# EAGLE library part GN1640 (library misc)
LED driver
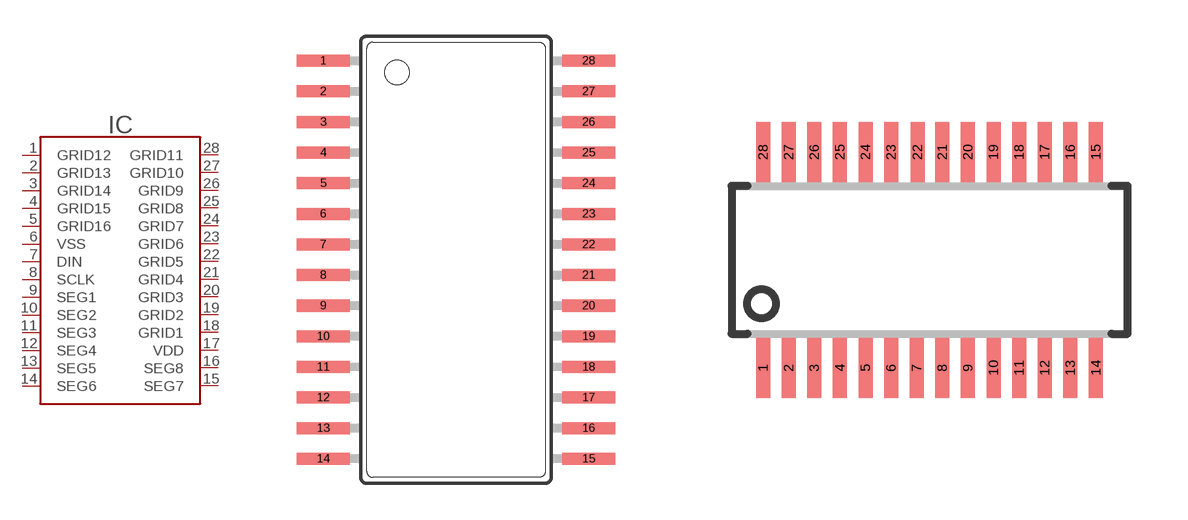
[diagram p5: symbol with the pads of SOP-28; footprints SOP-28, SSOP-28]

Designator prefix IC

## GN1640-SOP28 (LCSC#: C265478; MANF: GN Semic; MANF#: GN1640)  [SOP-28]
1  GRID12
2  GRID13
3  GRID14
4  GRID15
5  GRID16
6  VSS
7  DIN
8  SCLK
9  SEG1
10  SEG2
11  SEG3
12  SEG4
13  SEG5
14  SEG6
15  SEG7
16  SEG8
17  VDD
18  GRID1
19  GRID2
20  GRID3
21  GRID4
22  GRID5
23  GRID6
24  GRID7
25  GRID8
26  GRID9
27  GRID10
28  GRID11

## GN1640T-SSOP28 (LCSC#: C2758330; MANF: GN Semic; MANF#: GN1640T)  [SSOP-28]
Pads as for SOP-28

## Footprint SOP-28 (pad centres in mm)
Small Outline Package
smd 2.2 x 0.5: 1 -5.5,8.255; 2 -5.5,6.985; 3 -5.5,5.715; 4 -5.5,4.445; 5 -5.5,3.175; 6 -5.5,1.905; 7 -5.5,0.635; 8 -5.5,-0.635; 9 -5.5,-1.905; 10 -5.5,-3.175; 11 -5.5,-4.445; 12 -5.5,-5.715; 13 -5.5,-6.985; 14 -5.5,-8.255; 15 5.5,-8.255; 16 5.5,-6.985; 17 5.5,-5.715; 18 5.5,-4.445; 19 5.5,-3.175; 20 5.5,-1.905; 21 5.5,-0.635; 22 5.5,0.635; 23 5.5,1.905; 24 5.5,3.175; 25 5.5,4.445; 26 5.5,5.715; 27 5.5,6.985; 28 5.5,8.255

## Footprint SSOP-28 (pad centres in mm)
smd 0.35 x 1.5: 1 -4.16,-2.7; 2 -3.52,-2.7; 3 -2.88,-2.7; 4 -2.24,-2.7; 5 -1.6,-2.7; 6 -0.96,-2.7; 7 -0.32,-2.7; 8 0.32,-2.7; 9 0.96,-2.7; 10 1.6,-2.7; 11 2.24,-2.7; 12 2.88,-2.7; 13 3.52,-2.7; 14 4.16,-2.7; 15 4.16,2.7; 16 3.52,2.7; 17 2.88,2.7; 18 2.24,2.7; 19 1.6,2.7; 20 0.96,2.7; 21 0.32,2.7; 22 -0.3,2.7; 23 -0.96,2.7; 24 -1.6,2.7; 25 -2.24,2.7; 26 -2.88,2.7; 27 -3.52,2.7; 28 -4.16,2.7